# EAGLE library part TIC12400DCPR (library TIC12400DCPR)
MSDI- PRODUCTION- COMMERCIAL VER
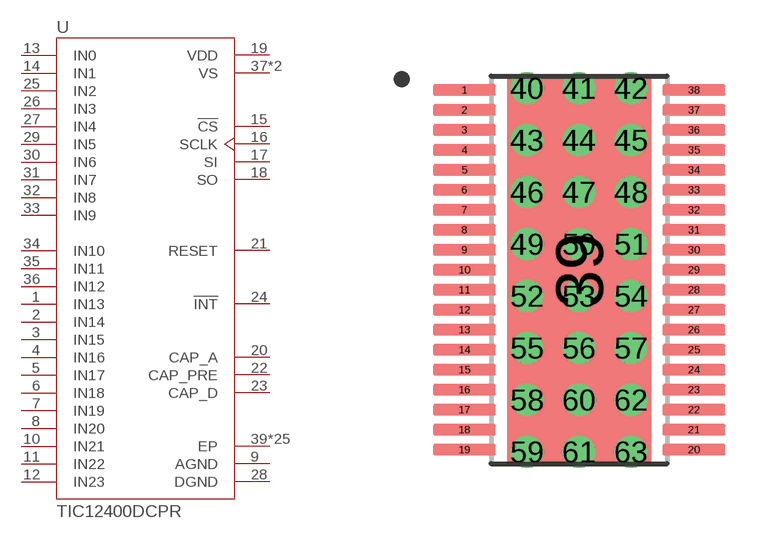
[diagram p0: symbol with the pads of SOP50P640X120-38N; footprint SOP50P640X120-38N]

Designator prefix U

## TIC12400DCPR (Description: 24-input sensor monitor with integrated 1:1 (SPST), 10-channel ADC & SPI 38-HTSSOP -40 to 105; Digi-Key_Part_Number: 296-47492-1-ND; MF: Texas Instruments; MP: TIC12400DCPR; Package: HTSSOP-38 Texas Instruments; Purchase-URL: https://pricing.snapeda.com/search/part/TIC12400DCPR/?ref=eda)  [SOP50P640X120-38N]
1  IN13
2  IN14
3  IN15
4  IN16
5  IN17
6  IN18
7  IN19
8  IN20
9  AGND  pwr
10  IN21
11  IN22
12  IN23
13  IN0
14  IN1
15  !CS  in
16  SCLK  in
17  SI  in
18  SO  out
19  VDD  pwr
20  CAP_A  pas
21  RESET  in
22  CAP_PRE  pas
23  CAP_D  pas
24  !INT  out
25  IN2
26  IN3
27  IN4
28  DGND  pwr
29  IN5
30  IN6
31  IN7
32  IN8
33  IN9
34  IN10
35  IN11
36  IN12
37  VS  pwr
38  VS  pwr
39  EP  pwr
40  EP  pwr
41  EP  pwr
42  EP  pwr
43  EP  pwr
44  EP  pwr
45  EP  pwr
46  EP  pwr
47  EP  pwr
48  EP  pwr
49  EP  pwr
50  EP  pwr
51  EP  pwr
52  EP  pwr
53  EP  pwr
54  EP  pwr
55  EP  pwr
56  EP  pwr
57  EP  pwr
58  EP  pwr
59  EP  pwr
60  EP  pwr
61  EP  pwr
62  EP  pwr
63  EP  pwr

## Footprint SOP50P640X120-38N (pad centres in mm)
smd 1.57 x 0.28: 1 -2.87,4.5; 2 -2.87,4; 3 -2.87,3.5; 4 -2.87,3; 5 -2.87,2.5; 6 -2.87,2; 7 -2.87,1.5; 8 -2.87,1; 9 -2.87,0.5; 10 -2.87,0; 11 -2.87,-0.5; 12 -2.87,-1; 13 -2.87,-1.5; 14 -2.87,-2; 15 -2.87,-2.5; 16 -2.87,-3; 17 -2.87,-3.5; 18 -2.87,-4; 19 -2.87,-4.5; 20 2.87,-4.5; 21 2.87,-4; 22 2.87,-3.5; 23 2.87,-3; 24 2.87,-2.5; 25 2.87,-2; 26 2.87,-1.5; 27 2.87,-1; 28 2.87,-0.5; 29 2.87,0; 30 2.87,0.5; 31 2.87,1; 32 2.87,1.5; 33 2.87,2; 34 2.87,2.5; 35 2.87,3; 36 2.87,3.5; 37 2.87,4; 38 2.87,4.5
smd 3.6 x 9.7: 39 0,0
drill 0.3 pad 0.5: 40 -1.3,4.55; 41 0,4.55; 42 1.3,4.55; 43 -1.3,3.25; 44 0,3.25; 45 1.3,3.25; 46 -1.3,1.95; 47 0,1.95; 48 1.3,1.95; 49 -1.3,0.65; 50 0,0.65; 51 1.3,0.65; 52 -1.3,-0.65; 53 0,-0.65; 54 1.3,-0.65; 55 -1.3,-1.95; 56 0,-1.95; 57 1.3,-1.95; 58 -1.3,-3.25; 59 -1.3,-4.55; 60 0,-3.25; 61 0,-4.55; 62 1.3,-3.25; 63 1.3,-4.55